# Altium schematic symbol library USB4085-GF-A.SchLib: 1 symbol
Pins are listed as number, name and electrical type; pins without a type are passive.

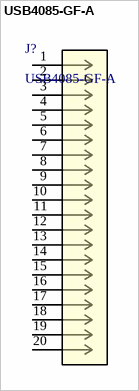
[diagram p0: symbol USB4085-GF-A]

## USB4085-GF-A
designator J?
Description; Manufacturer_Name: Global Connector Technology; Copyright: Copyright (C) 2025 Ultra Librarian. All rights reserved.; Manufacturer_Part_Number: USB4085-GF-A; RefDes: RefDes; Type: Type
footprint CONN16_USB4085-GF-A_GCT
pins: 1, 2, 3, 4, 5, 6, 7, 8, 9, 10, 11, 12, 13, 14, 15, 16, 17, 18, 19, 20